# EAGLE library part ESPRESSIF-ESP-12F&E (library ts_dev_boards)
ESP12E Module
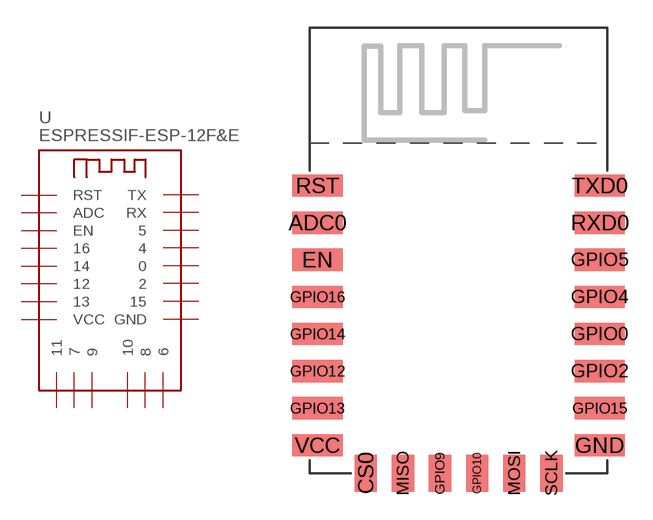
[diagram p0: symbol with the pads of ESP8266-ESP-12E; footprint ESP8266-ESP-12E]

Designator prefix U

## ESPRESSIF-ESP-12F&ESMD  [ESP8266-ESP-12E]
ADC0  ADC
CS0  11
EN  EN
GND  GND
GPIO0  0
GPIO2  2
GPIO4  4
GPIO5  5
GPIO9  9
GPIO10  10
GPIO12  12
GPIO13  13
GPIO14  14
GPIO15  15
GPIO16  16
MISO  7
MOSI  8
RST  RST
RXD0  RX
SCLK  6
TXD0  TX
VCC  VCC

## Footprint ESP8266-ESP-12E (pad centres in mm)
ESP8266 Module 12E
smd 2.7 x 1.2: ADC0 -7.6,3.5; EN -7.6,1.5; GND 7.6,-8.5; GPIO0 7.6,-2.5; GPIO2 7.6,-4.5; GPIO4 7.6,-0.5; GPIO5 7.6,1.5; GPIO12 -7.6,-4.5; GPIO13 -7.6,-6.5; GPIO14 -7.6,-2.5; GPIO15 7.6,-6.5; GPIO16 -7.6,-0.5; RST -7.6,5.5; RXD0 7.6,3.5; TXD0 7.6,5.5; VCC -7.6,-8.5
smd 1.2 x 2: CS0 -5,-10; GPIO9 -1,-10; GPIO10 1,-10; MISO -3,-10; MOSI 3,-10; SCLK 5,-10